# Altium footprint library Mems.PcbLib: 1 footprints
Each footprint in its own frame and in the unit in brackets; x right, y up, seen from the top. Pads: shape width x height; smd on the part's side, far side on the other; paste and mask are expansions set on the pad; w line width, h text height; cw(c..) or ccw(c..) is an arc to the next point about the centre after c.
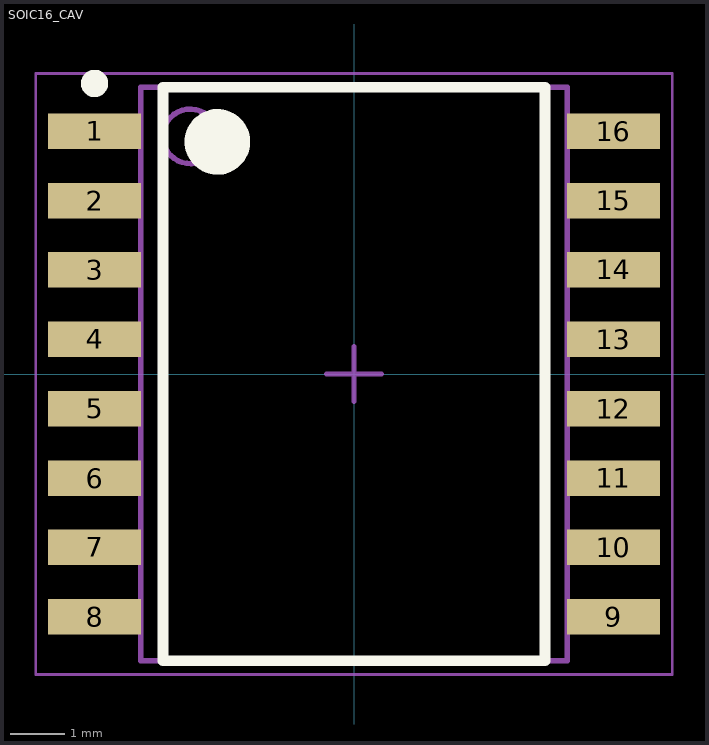
[diagram p0: the footprint, top view; thin cyan lines are the x and y axes]

## SOIC16_CAV [mm] "SOIC, 16-Leads, Body 10,30x7,70mm, Pitch 1,27mm, IPC Medium Density"
height 3.73
pads (16):
  rect 1.7x0.65 smd: 1(-4.75,4.445) 2(-4.75,3.175) 3(-4.75,1.905) 4(-4.75,0.635) 5(-4.75,-0.635) 6(-4.75,-1.905) 7(-4.75,-3.175) 8(-4.75,-4.445) 9(4.75,-4.445) 10(4.75,-3.175) 11(4.75,-1.905) 12(4.75,-0.635) 13(4.75,0.635) 14(4.75,1.905) 15(4.75,3.175) 16(4.75,4.445)
Top Overlay:
  circle w0.25: c-4.75,5.32 r0.125
  circle w0.6: c-2.5,4.25 r0.3
  lines w0.2: -3.5,-5.25 3.5,-5.25 3.5,5.25 -3.5,5.25 -3.5,-5.25
Mechanical 13:
  circle w0.1: c-3,4.35 r0.5
  lines w0.1: -3.9,-5.25 -3.9,5.25 3.9,5.25 3.9,-5.25 -3.9,-5.25
Mechanical 15:
  lines w0.05: -5.825,-5.5 -5.825,5.5 5.825,5.5 5.825,-5.5 -5.825,-5.5
  lines w0.1: -0.5,0 0.5,0 ; 0,-0.5 0,0.5
3D body "SOIC16_CAV.step": height 3.73, standoff 0, extent -5.098,-5.25 5.098,5.25